# EAGLE library part IC_LM339 (library akita)
LM339, comparator x 4
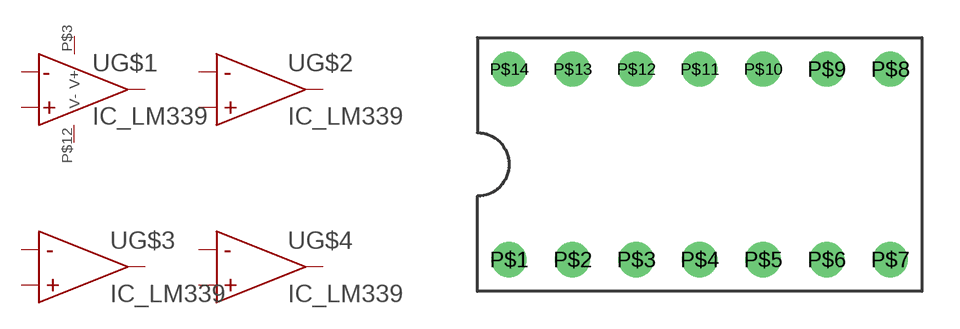
[diagram p170: symbol with the pads of DIP14; footprint DIP14]

Designator prefix U; gates G$1=OPA_SGL G$2=OPA_SGL_NOPOW G$3=OPA_SGL_NOPOW G$4=OPA_SGL_NOPOW

## IC_LM339  [DIP14]
P$1  G$2:VO
P$2  G$1:VO
P$3  G$1:V+
P$4  G$1:INM
P$5  G$1:INP
P$6  G$2:INM
P$7  G$2:INP
P$8  G$3:INM
P$9  G$3:INP
P$10  G$4:INM
P$11  G$4:INP
P$12  G$1:V-
P$13  G$4:VO
P$14  G$3:VO

## Footprint DIP14 (pad centres in mm)
drill 0.9: P$1 -7.62,-3.81; P$2 -5.08,-3.81; P$3 -2.54,-3.81; P$4 0,-3.81; P$5 2.54,-3.81; P$6 5.08,-3.81; P$7 7.62,-3.81; P$8 7.62,3.81; P$9 5.08,3.81; P$10 2.54,3.81; P$11 0,3.81; P$12 -2.54,3.81; P$13 -5.08,3.81; P$14 -7.62,3.81